# EAGLE library part LTC6655CHMS8-3.3PBF (library LTC6655CHMS8-3.3PBF)
0.25ppm Noise, Low Drift Precision Buffered Reference
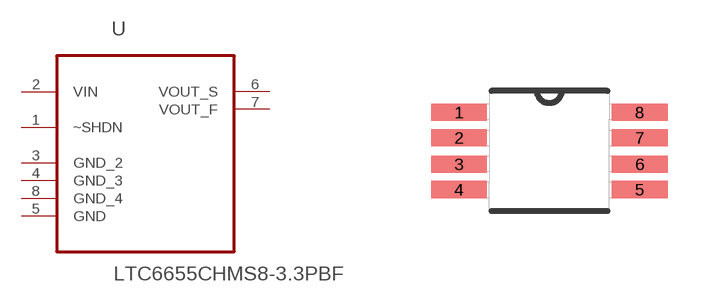
[diagram p0: symbol with the pads of SOP65P490X110-8N; footprint SOP65P490X110-8N]

Designator prefix U

## LTC6655CHMS8-3.3PBF (Availability: Unavailable; Description: LTC6655 - 0.25ppm Noise, Low Drift Precision References; MF: Linear Technology/Analog; MP: LTC6655CHMS8-3.3#PBF; Package: MSOP-8 Linear Technology; Price: None)  [SOP65P490X110-8N]
1  ~SHDN  in
2  VIN  pwr
3  GND_2  pas
4  GND_3  pas
5  GND  pas
6  VOUT_S  out
7  VOUT_F  out
8  GND_4  pas

## Footprint SOP65P490X110-8N (pad centres in mm)
smd 1.397 x 0.432: 1 -2.261,0.965; 2 -2.261,0.33; 3 -2.261,-0.33; 4 -2.261,-0.965; 5 2.261,-0.965; 6 2.261,-0.33; 7 2.261,0.33; 8 2.261,0.965